# Altium footprint library L2_RELAY.PcbLib: 1 footprints
Each footprint in its own frame and in the unit in brackets; x right, y up, seen from the top. Pads: shape width x height; smd on the part's side, far side on the other; paste and mask are expansions set on the pad; w line width, h text height; cw(c..) or ccw(c..) is an arc to the next point about the centre after c.
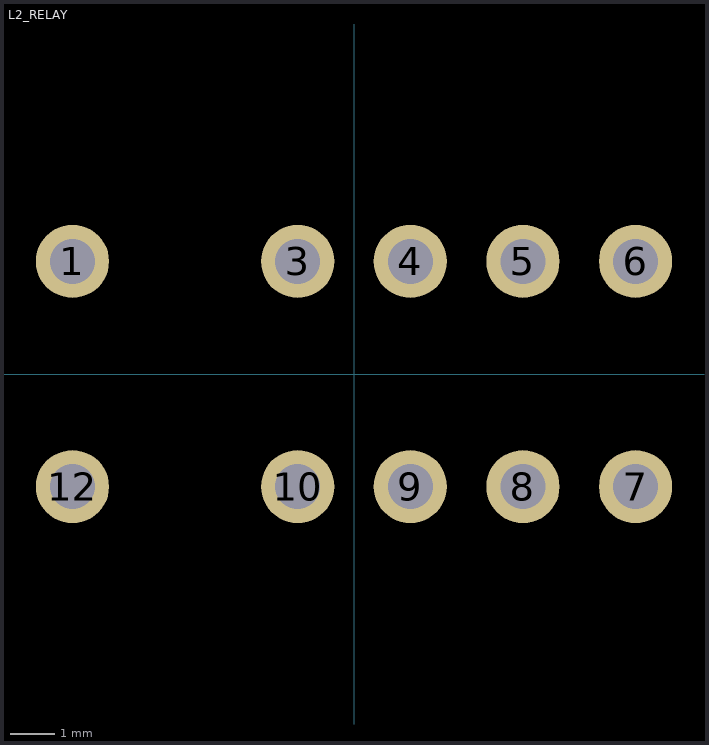
[diagram p0: the footprint, top view; thin cyan lines are the x and y axes]

## L2_RELAY [mil]
pads (10):
  round 65 hole 40: 1(-250,100) 3(-50,100) 4(50,100) 5(150,100) 6(250,100) 7(250,-100) 8(150,-100) 9(50,-100) 10(-50,-100) 12(-250,-100)
3D body: height 322.83, standoff -137.8, extent -295.27,-145.66 295.28,145.68